# Altium schematic symbol library Embedded.SchLib: 40 symbols
Pins are listed as number, name and electrical type; pins without a type are passive.

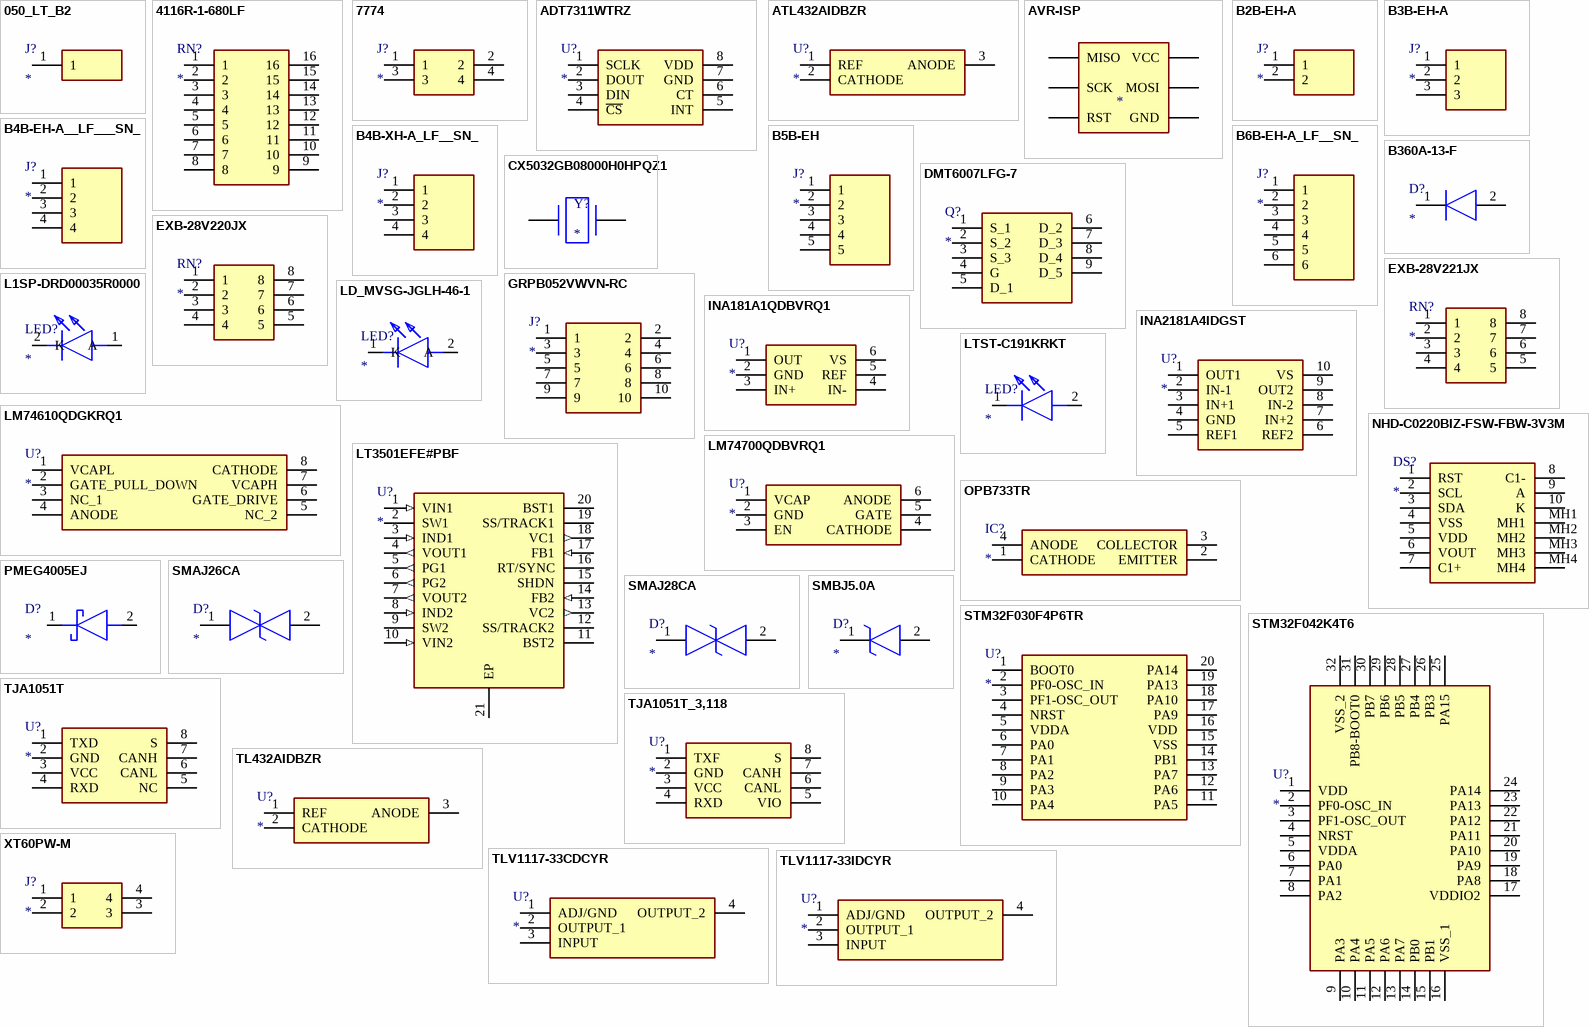
[diagram p0: symbols 050_LT_B2 to XT60PW-M]

## 050_LT_B2
designator J?
Connector; Manufacturer_Name: Oxley; Manufacturer_Part_Number: 050/LT/B2; Datasheet Link: http://www.farnell.com/datasheets/2644146.pdf?_ga=2.63921641.795442872.1562935128-2061028581.1560430415; Height: 4.5mm; Arrow Part Number: 050/LT/B2
footprint 050LTB2
pins: 1

## 4116R-1-680LF
designator RN?
Resistor Network; Manufacturer_Name: Bourns; Manufacturer_Part_Number: 4116R-1-680LF; Description: Bourns Isolated Resistor Network 68 +/-2% 8 Resistors; Datasheet Link: https://www.mouser.com/datasheet/2/54/4100R-776985.pdf; Height: 4.69mm; Mouser Part Number: 652-4116R-1LF-68; Mouser Price/Stock: https://www.mouser.com/Search/Refine.aspx?Keyword=652-4116R-1LF-68
footprint 4116R1680LF
pins: 1, 2, 3, 4, 5, 6, 7, 8, 9, 10, 11, 12, 13, 14, 15, 16

## 7774
designator J?
Connector; Manufacturer_Name: Keystone Electronics; Manufacturer_Part_Number: 7774; Datasheet Link: http://keyelco.com/userAssets/file/M65p66.pdf; Height: 4.6mm; Arrow Part Number: 7774; Mouser Part Number: 534-7774; Mouser Price/Stock: https://www.mouser.co.uk/ProductDetail/Keystone-Electronics/7774?qs=%252B%252BPv0l39JAFc7pxogUYqRg%3D%3D
footprint 7774
pins: 1, 2, 3, 4

## ADT7311WTRZ
designator U?
Integrated Circuit; Manufacturer_Name: Analog Devices; Manufacturer_Part_Number: ADT7311WTRZ; Datasheet Link: https://componentsearchengine.com/Datasheets/2/ADT7311WTRZ.pdf; Height: 1.75mm; Mouser Part Number: 584-ADT7311WTRZ; Mouser Price/Stock: https://www.mouser.com/Search/Refine.aspx?Keyword=584-ADT7311WTRZ
footprint SOIC127P600X175-8N
pins: 1 SCLK, 2 DOUT, 3 DIN, 4 ~{CS}, 5 INT, 6 CT, 7 GND, 8 VDD

## ATL432AIDBZR
designator U?
Integrated Circuit; Manufacturer_Name: Texas Instruments; Manufacturer_Part_Number: ATL432AIDBZR; Datasheet Link: https://www.ti.com/lit/gpn/ATL432; Height: 1.12mm; Arrow Part Number: ATL432AIDBZR; Mouser Part Number: 595-ATL432AIDBZR; Mouser Price/Stock: https://www.mouser.co.uk/ProductDetail/Texas-Instruments/ATL432AIDBZR?qs=yajEpaT76uTSfuUtbT09pw%3D%3D
footprint SOT95P237X112-3N
pins: 1 REF, 2 CATHODE, 3 ANODE

## AVR-ISP
designator ?  (mechanical)
Emulators / Simulators AVR USB IN CIRCUIT EMUL/PRGMR ISP; MP: AVR-ISP; MF: Gravitech; SnapEDA_Link: https://www.snapeda.com/parts/AVR-ISP/Gravitech/view-part/4593377/?ref=snap; Availability: Unavailable; Price: None; Value: *; Package: None
footprint AVR-ISP
pins: GND, MISO, MOSI, RST, SCK, VCC

## B2B-EH-A
designator J?
Connector; Manufacturer_Name: JST (JAPAN SOLDERLESS TERMINALS); Manufacturer_Part_Number: B2B-EH-A; Datasheet Link: http://www.jst-mfg.com/product/pdf/eng/eEH.pdf; Height: 6mm; Arrow Part Number: B2B-EH-A
footprint SHDR2W64P0X250_1X2_750X380X600P
pins: 1, 2

## B3B-EH-A
designator J?
Connector; Manufacturer_Name: JST (JAPAN SOLDERLESS TERMINALS); Manufacturer_Part_Number: B3B-EH-A; Datasheet Link: https://datasheet.datasheetarchive.com/originals/dk/DKDS-2/32954.pdf; Height: 6mm; Arrow Part Number: B3B-EH-A
footprint SHDR3W64P0X250_1X3_1000X380X600P
pins: 1, 2, 3

## B4B-EH-A__LF___SN_
designator J?
Connector; Manufacturer_Name: JST (JAPAN SOLDERLESS TERMINALS); Manufacturer_Part_Number: B4B-EH-A (LF) (SN); Datasheet Link: http://www.jst-mfg.com/product/pdf/eng/eEH.pdf; Height: 6mm; Arrow Part Number: B4B-EH-A (LF) (SN)
footprint SHDR4W64P0X250_1X4_1250X380X600P
pins: 1, 2, 3, 4

## B4B-XH-A_LF__SN_
designator J?
Connector; Manufacturer_Name: JST Sales America; Manufacturer_Part_Number: B4B-XH-A(LF)(SN); Datasheet Link: https://datasheet.lcsc.com/szlcsc/JST-Sales-America-B4B-XH-A-LF-SN_C144395.pdf; Height: 7mm; Arrow Part Number: B4B-XH-A(LF)(SN)
footprint B4BXHALFSN
pins: 1, 2, 3, 4

## B5B-EH
designator J?
Connector; Manufacturer_Name: JST (JAPAN SOLDERLESS TERMINALS); Manufacturer_Part_Number: B5B-EH; Datasheet Link: http://www.jst-mfg.com/product/pdf/eng/eEH.pdf; Height: 6mm
footprint SHDR5W64P0X250_1X5_1500X380X600P
pins: 1, 2, 3, 4, 5

## B6B-EH-A_LF__SN_
designator J?
Connector; Manufacturer_Name: JST (JAPAN SOLDERLESS TERMINALS); Manufacturer_Part_Number: B6B-EH-A(LF)(SN); Datasheet Link: http://www.jst-mfg.com/product/pdf/eng/eEH.pdf; Height: 6mm; Arrow Part Number: B6B-EH-A(LF)(SN); Arrow Price/Stock: https://www.arrow.com/en/products/b6b-eh-a-lf-sn/jst-manufacturing
footprint B6BEHALFSN
pins: 1, 2, 3, 4, 5, 6

## B360A-13-F
designator D?
Diode; Manufacturer_Name: Diodes Inc.; Manufacturer_Part_Number: B360A-13-F; Datasheet Link: https://www.diodes.com/assets/Datasheets/ds30891.pdf; Height: 2.4mm; Arrow Part Number: B360A-13-F; Arrow Price/Stock: https://www.arrow.com/en/products/b360a-13-f/diodes-incorporated; Mouser Part Number: 621-B360A-F; Mouser Price/Stock: https://www.mouser.co.uk/ProductDetail/Diodes-Incorporated/B360A-13-F?qs=sVoUGXYOGv3xoCWNHVb4bA%3D%3D
footprint DIOM5226X240N
pins: 1 K, 2 A

## CX5032GB08000H0HPQZ1
designator Y?
Crystal or Oscillator; Manufacturer_Name: Kyocera Electronic Components; Manufacturer_Part_Number: CX5032GB08000H0HPQZ1; Datasheet Link: https://media.digikey.com/pdf/Data%20Sheets/AVX%20PDFs/CX5032GB0yyyyyH0HPQZ1_Series_Spec.pdf; Height: 1.1mm; Arrow Part Number: CX5032GB08000H0HPQZ1; Mouser Part Number: 581-CX532GB8HHPQZ1; Mouser Price/Stock: https://www.mouser.co.uk/ProductDetail/Kyocera-Electronic-Components/CX5032GB08000H0HPQZ1?qs=mFMVSnANsC2SO%252B6cjFFj8w%3D%3D
footprint CX5032GB08000H0HPQZ1
pins: 1, 2

## DMT6007LFG-7
designator Q?
MOSFET (N-Channel); Manufacturer_Name: Diodes Inc.; Manufacturer_Part_Number: DMT6007LFG-7; Datasheet Link: https://componentsearchengine.com/Datasheets/1/DMT6007LFG-7.pdf; Height: 0.85mm; Arrow Part Number: DMT6007LFG-7; Arrow Price/Stock: https://www.arrow.com/en/products/dmt6007lfg-7/diodes-incorporated; Mouser Part Number: 621-DMT6007LFG-7; Mouser Price/Stock: https://www.mouser.com/Search/Refine.aspx?Keyword=621-DMT6007LFG-7
footprint DMT6007LFG7
pins: 1 S_1, 2 S_2, 3 S_3, 4 G, 5 D_1, 6 D_2, 7 D_3, 8 D_4, 9 D_5

## EXB-28V220JX
designator RN?
Resistor Network; Manufacturer_Name: Panasonic; Manufacturer_Part_Number: EXB-28V220JX; Datasheet Link: https://industrial.panasonic.com/cdbs/www-data/pdf/AOC0000/AOC0000C14.pdf; Height: 0mm; Arrow Part Number: EXB-28V220JX; Arrow Price/Stock: https://www.arrow.com/en/products/exb28v220jx/panasonic; Mouser Part Number: 667-EXB-28V220JX; Mouser Price/Stock: https://www.mouser.co.uk/ProductDetail/Panasonic/EXB-28V220JX?qs=oE3VwAv%2FYtloe62uHqirww%3D%3D
footprint EXB28V510JX
pins: 1, 2, 3, 4, 5, 6, 7, 8

## EXB-28V221JX
designator RN?
Resistor Network; Manufacturer_Name: Panasonic; Manufacturer_Part_Number: EXB-28V221JX; Datasheet Link: https://industrial.panasonic.com/cdbs/www-data/pdf/AOC0000/AOC0000C14.pdf; Height: 0mm; Arrow Part Number: EXB-28V221JX; Arrow Price/Stock: https://www.arrow.com/en/products/exb-28v221jx/panasonic; Mouser Part Number: 667-EXB-28V221JX; Mouser Price/Stock: https://www.mouser.co.uk/ProductDetail/Panasonic/EXB-28V221JX?qs=oE3VwAv%2FYtmqBdW5%252BRW5gA%3D%3D
footprint EXB28V510JX
pins: 1, 2, 3, 4, 5, 6, 7, 8

## GRPB052VWVN-RC
designator J?
Connector; Manufacturer_Name: Sullins; Manufacturer_Part_Number: GRPB052VWVN-RC; Datasheet Link: https://media.digikey.com/pdf/Data%20Sheets/Sullins%20PDFs/GRPB_%20_2VWVN-RC%2010954-C.pdf; Height: 4.3mm; Arrow Part Number: GRPB052VWVN-RC
footprint HDRV10W50P127_2X5_635X340X430P
pins: 1, 2, 3, 4, 5, 6, 7, 8, 9, 10

## INA181A1QDBVRQ1
designator U?
Integrated Circuit; Manufacturer_Name: Texas Instruments; Manufacturer_Part_Number: INA181A1QDBVRQ1; Datasheet Link: http://www.ti.com/lit/gpn/INA181-Q1; Height: 1.45mm; Arrow Part Number: INA181A1QDBVRQ1; Arrow Price/Stock: https://www.arrow.com/en/products/ina181a1qdbvrq1/texas-instruments; Mouser Part Number: 595-INA181A1QDBVRQ1; Mouser Price/Stock: https://www.mouser.co.uk/ProductDetail/Texas-Instruments/INA181A1QDBVRQ1?qs=EBDBlbfErPx7yYU5sEtaJQ%3D%3D
footprint SOT95P280X145-6N
pins: 1 OUT, 2 GND, 3 IN+, 4 IN-, 5 REF, 6 VS

## INA2181A4IDGST
designator U?
Integrated Circuit; Manufacturer_Name: Texas Instruments; Manufacturer_Part_Number: INA2181A4IDGST; Datasheet Link: http://www.ti.com/lit/ds/symlink/ina2181.pdf; Height: 1.1mm; Arrow Part Number: INA2181A4IDGST; Arrow Price/Stock: https://www.arrow.com/en/products/ina2181a4idgst/texas-instruments; Mouser Part Number: 595-INA2181A4IDGST; Mouser Price/Stock: https://www.mouser.co.uk/ProductDetail/Texas-Instruments/INA2181A4IDGST?qs=j%252B1pi9TdxUbPFaAVw1%2FxVg%3D%3D
footprint SOP50P490X110-10N
pins: 1 OUT1, 2 IN-1, 3 IN+1, 4 GND, 5 REF1, 6 REF2, 7 IN+2, 8 IN-2, 9 OUT2, 10 VS

## L1SP-DRD00035R0000
designator LED?
LED; Manufacturer_Name: Lumileds; Manufacturer_Part_Number: L1SP-DRD00035R0000; Datasheet Link: https://www.lumileds.com/uploads/637/DS171-luxeon-sunplus-series-datasheet-pdf; Height: 0.8mm; Arrow Part Number: L1SP-DRD00035R0000; Arrow Price/Stock: https://www.arrow.com/en/products/l1sp-drd00035r0000/lumileds; Mouser Part Number: 997-L1SPDRD0035R0000; Mouser Price/Stock: https://www.mouser.com/Search/Refine.aspx?Keyword=997-L1SPDRD0035R0000
footprint L1SPDRD00035R0000
pins: 1 A, 2 K

## LD_MVSG-JGLH-46-1
designator LED?
LED; Manufacturer_Name: OSRAM; Manufacturer_Part_Number: LD MVSG-JGLH-46-1; Datasheet Link: https://dammedia.osram.info/media/resource/hires/osram-dam-6917470/LD%20MVSG_EN.pdf; Height: 1.4mm; Arrow Part Number: LD MVSG-JGLH-46-1; Arrow Price/Stock: https://www.arrow.com/en/products/ldmvsg-jglh-46-1/osram-opto-semiconductors; Mouser Part Number: 720-LDMVSGJGLH461; Mouser Price/Stock: https://www.mouser.co.uk/ProductDetail/OSRAM-Opto-Semiconductors/LD-MVSG-JGLH-46-1?qs=znB0%2F8lYn%252BuYpqaPHtqGHw%3D%3D
footprint LEDM2218X140N
pins: 1 K, 2 A

## LM74610QDGKRQ1
designator U?
Integrated Circuit; Manufacturer_Name: Texas Instruments; Manufacturer_Part_Number: LM74610QDGKRQ1; Datasheet Link: http://www.ti.com/lit/gpn/lm74610-q1; Height: 1.1mm; Arrow Part Number: LM74610QDGKRQ1; Arrow Price/Stock: https://www.arrow.com/en/products/lm74610qdgkrq1/texas-instruments; Mouser Part Number: 595-LM74610QDGKRQ1; Mouser Price/Stock: https://www.mouser.co.uk/ProductDetail/Texas-Instruments/LM74610QDGKRQ1?qs=3jdCaFhktOQTVpuuubgDqg%3D%3D
footprint SOP65P490X110-8N
pins: 1 VCAPL, 2 GATE_PULL_DOWN, 3 NC_1, 4 ANODE, 5 NC_2, 6 GATE_DRIVE, 7 VCAPH, 8 CATHODE

## LM74700QDBVRQ1
designator U?
Integrated Circuit; Manufacturer_Name: Texas Instruments; Manufacturer_Part_Number: LM74700QDBVRQ1; Datasheet Link: http://www.ti.com/lit/gpn/LM74700-Q1; Height: 1.45mm; Arrow Part Number: LM74700QDBVRQ1; Arrow Price/Stock: https://www.arrow.com/en/products/lm74700qdbvrq1/texas-instruments; Mouser Part Number: 595-LM74700QDBVRQ1; Mouser Price/Stock: https://www.mouser.co.uk/ProductDetail/Texas-Instruments/LM74700QDBVRQ1?qs=j%252B1pi9TdxUYjAZhGV8eSkQ%3D%3D
footprint SOT95P280X145-6N
pins: 1 VCAP, 2 GND, 3 EN, 4 CATHODE, 5 GATE, 6 ANODE

## LT3501EFE#PBF
designator U?
Integrated Circuit; Manufacturer_Name: Linear Technology; Manufacturer_Part_Number: LT3501EFE#PBF; Datasheet Link: http://cds.linear.com/docs/en/datasheet/3501fd.pdf; Height: 1.2mm; Arrow Part Number: LT3501EFE#PBF; Mouser Part Number: 584-LT3501EFE#PBF; Mouser Price/Stock: https://www.mouser.com/Search/Refine.aspx?Keyword=584-LT3501EFE%23PBF
footprint SOP65P640X120-21N
pins: 1 VIN1 (in), 2 SW1, 3 IND1 (in), 4 VOUT1 (out), 5 PG1 (out), 6 PG2 (out), 7 VOUT2 (out), 8 IND2 (in), 9 SW2, 10 VIN2 (in), 11 BST2, 12 SS/TRACK2, 13 VC2 (out), 14 FB2 (in), 15 SHDN, 16 RT/SYNC, 17 FB1 (in), 18 VC1 (out), 19 SS/TRACK1, 20 BST1, 21 EP (power)

## LTST-C191KRKT
designator LED?
LED; Manufacturer_Name: Lite-On; Manufacturer_Part_Number: LTST-C191KRKT; Description: Standard LEDs - SMD Red Clear 631nm; Datasheet Link: http://www.mouser.com/ds/2/239/S_110_LTST-C191KRKT-539838.pdf; Height: 0.55mm; Arrow Part Number: LTST-C191KRKT; Arrow Price/Stock: https://www.arrow.com/en/products/ltst-c191krkt/lite-on-technology; Mouser Part Number: 859-LTST-C191KRKT; Mouser Price/Stock: https://www.mouser.co.uk/ProductDetail/Lite-On/LTST-C191KRKT?qs=BAIUz4Y8PJBLfOhzue0q%252BA%3D%3D
footprint LEDC1608X55N
pins: 1 K, 2 A

## NHD-C0220BIZ-FSW-FBW-3V3M
designator DS?
Display; Manufacturer_Name: Newhaven Display; Manufacturer_Part_Number: NHD-C0220BIZ-FSW-FBW-3V3M; Datasheet Link: https://componentsearchengine.com/Datasheets/1/NHD-C0220BiZ-FSW-FBW-3V3M.pdf; Height: 7mm; Arrow Part Number: NHD-C0220BIZ-FSW-FBW-3V3M; Mouser Part Number: 763-C0220BIZ-FSW-FBW; Mouser Price/Stock: https://www.mouser.com/Search/Refine.aspx?Keyword=763-C0220BIZ-FSW-FBW
footprint NHDC0220BIZFSWFBW3V3M
pins: 1 RST, 2 SCL, 3 SDA, 4 VSS, 5 VDD, 6 VOUT, 7 C1+, 8 C1-, 9 A, 10 K, MH1, MH2, MH3, MH4

## OPB733TR
designator IC?
Integrated Circuit; Manufacturer_Name: OPTEK TECHNOLOGY; Manufacturer_Part_Number: OPB733TR; Datasheet Link: https://www.ttelectronics.com/TTElectronics/media/ProductFiles/Optoelectronics/Datasheets/OPB733.pdf; Height: 2.89mm; Arrow Part Number: OPB733TR; Arrow Price/Stock: https://www.arrow.com/en/products/opb733tr/optek-technology; Mouser Part Number: 828-OPB733TR; Mouser Price/Stock: https://www.mouser.co.uk/ProductDetail/Optek-TT-Electronics/OPB733TR?qs=Hy8V1%2FADhVLIiFPCqvrxlg%3D%3D
footprint OPB733TR
pins: 1 CATHODE, 2 EMITTER, 3 COLLECTOR, 4 ANODE

## PMEG4005EJ
designator D?
Schottky Diode; Manufacturer_Name: Nexperia; Manufacturer_Part_Number: PMEG4005EJ; Datasheet Link: http://www.nxp.com/documents/data_sheet/PMEGXX05EH_EJ_SER.pdf; Height: 0.8mm; Arrow Part Number: PMEG4005EJ; Mouser Part Number: N/A; Mouser Price/Stock: https://www.mouser.com/Search/Refine.aspx?Keyword=N%2FA
footprint SOD2512X80N
pins: 1 K, 2 A

## SMAJ26CA
designator D?
TVS Diode (Bi-directional); Manufacturer_Name: LITTELFUSE; Manufacturer_Part_Number: SMAJ26CA; Datasheet Link: https://www.littelfuse.com/~/media/electronics/datasheets/tvs_diodes/littelfuse_tvs_diode_smaj_datasheet.pdf.pdf; Height: 2.29mm; Arrow Part Number: SMAJ26CA; Arrow Price/Stock: https://www.arrow.com/en/products/smaj26ca/littelfuse; Mouser Part Number: 576-SMAJ26CA; Mouser Price/Stock: https://www.mouser.co.uk/ProductDetail/Littelfuse/SMAJ26CA?qs=JJML70Qc14sEeKNnyCkoLQ%3D%3D
footprint DIONM5026X229N
pins: 1, 2

## SMAJ28CA
designator D?
TVS Diode (Bi-directional); Manufacturer_Name: Bourns; Manufacturer_Part_Number: SMAJ28CA; Datasheet Link: https://www.bourns.com/data/global/pdfs/SMAJ.pdf; Height: 2.62mm; Arrow Part Number: SMAJ28CA; Arrow Price/Stock: https://www.arrow.com/en/products/smaj28ca/bourns; Mouser Part Number: 652-SMAJ28CA; Mouser Price/Stock: https://www.mouser.co.uk/ProductDetail/Bourns/SMAJ28CA?qs=A3H9pljuJ8Rc2FOBsYvsOw%3D%3D
footprint DIONM5226X262N
pins: 1, 2

## SMBJ5.0A
designator D?
TVS Diode (Uni-directional); Manufacturer_Name: Vishay; Manufacturer_Part_Number: SMBJ5.0A; Datasheet Link: http://www.vishay.com/docs/88392/smbj.pdf; Height: 2.44mm; Arrow Part Number: SMBJ5.0A
footprint DIOM5436X244N
pins: 1 K, 2 A

## STM32F030F4P6TR
designator U?
Integrated Circuit; Manufacturer_Name: STMicroelectronics; Manufacturer_Part_Number: STM32F030F4P6TR; Datasheet Link: https://www.st.com/resource/en/datasheet/stm32f030rc.pdf; Height: 1.2mm; Arrow Part Number: STM32F030F4P6TR; Arrow Price/Stock: https://www.arrow.com/en/products/stm32f030f4p6tr/stmicroelectronics; Mouser Part Number: 511-STM32F030F4P6TR; Mouser Price/Stock: https://www.mouser.co.uk/ProductDetail/STMicroelectronics/STM32F030F4P6TR?qs=MavH1QghrkE4yfyLOfvVsw%3D%3D
footprint SOP65P640X120-20N
pins: 1 BOOT0, 2 PF0-OSC_IN, 3 PF1-OSC_OUT, 4 NRST, 5 VDDA, 6 PA0, 7 PA1, 8 PA2, 9 PA3, 10 PA4, 11 PA5, 12 PA6, 13 PA7, 14 PB1, 15 VSS, 16 VDD, 17 PA9, 18 PA10, 19 PA13, 20 PA14

## STM32F042K4T6
designator U?
Integrated Circuit; Manufacturer_Name: STMicroelectronics; Manufacturer_Part_Number: STM32F042K4T6; Datasheet Link: https://www.mouser.com/datasheet/2/389/stm32f042c4-956225.pdf; Height: 1.6mm; Arrow Part Number: STM32F042K4T6; Arrow Price/Stock: https://www.arrow.com/en/products/stm32f042k4t6/stmicroelectronics; Mouser Part Number: 511-STM32F042K4T6; Mouser Price/Stock: https://www.mouser.co.uk/ProductDetail/STMicroelectronics/STM32F042K4T6?qs=ClYTdQWm4hDAfZj5dd9NhA%3D%3D
footprint QFP80P900X900X160-32N
pins: 1 VDD, 2 PF0-OSC_IN, 3 PF1-OSC_OUT, 4 NRST, 5 VDDA, 6 PA0, 7 PA1, 8 PA2, 9 PA3, 10 PA4, 11 PA5, 12 PA6, 13 PA7, 14 PB0, 15 PB1, 16 VSS_1, 17 VDDIO2, 18 PA8, 19 PA9, 20 PA10, 21 PA11, 22 PA12, 23 PA13, 24 PA14, 25 PA15, 26 PB3, 27 PB4, 28 PB5, 29 PB6, 30 PB7, 31 PB8-BOOT0, 32 VSS_2

## TJA1051T
designator U?
Integrated Circuit; Manufacturer_Name: Nexperia; Manufacturer_Part_Number: TJA1051T; Datasheet Link: http://uk.rs-online.com/web/p/products/1242432; Height: 1.75mm; Arrow Part Number: TJA1051T; Mouser Part Number: N/A; Mouser Price/Stock: https://www.mouser.com/Search/Refine.aspx?Keyword=N%2FA
footprint SOIC127P600X175-8N
pins: 1 TXD, 2 GND, 3 VCC, 4 RXD, 5 NC, 6 CANL, 7 CANH, 8 S

## TJA1051T_3,118
designator U?
Integrated Circuit; Manufacturer_Name: NXP; Manufacturer_Part_Number: TJA1051T/3,118; Datasheet Link: http://www.nxp.com/docs/en/data-sheet/TJA1051.pdf; Height: 1.75mm; Arrow Part Number: TJA1051T/3,118; Arrow Price/Stock: https://www.arrow.com/en/products/tja1051t3118/nxp-semiconductors; Mouser Part Number: 771-TJA1051T3118; Mouser Price/Stock: https://www.mouser.co.uk/ProductDetail/NXP-Semiconductors/TJA1051T-3118?qs=O%2F7ihdSJpebv1PFlp05wnQ%3D%3D
footprint SOIC127P600X175-8N
pins: 1 TXF, 2 GND, 3 VCC, 4 RXD, 5 VIO, 6 CANL, 7 CANH, 8 S

## TL432AIDBZR
designator U?
Integrated Circuit; Manufacturer_Name: Texas Instruments; Manufacturer_Part_Number: TL432AIDBZR; Datasheet Link: http://www.ti.com/lit/gpn/tl432a; Height: 1.12mm; Arrow Part Number: TL432AIDBZR; Arrow Price/Stock: https://www.arrow.com/en/products/tl432aidbzr/texas-instruments; Mouser Part Number: 595-TL432AIDBZR; Mouser Price/Stock: https://www.mouser.co.uk/ProductDetail/Texas-Instruments/TL432AIDBZR?qs=odmYgEirbwzw%252BopYvrzCyA%3D%3D
footprint SOT95P237X112-3N
pins: 1 REF, 2 CATHODE, 3 ANODE

## TLV1117-33CDCYR
designator U?
Integrated Circuit; Manufacturer_Name: Texas Instruments; Manufacturer_Part_Number: TLV1117-33CDCYR; Datasheet Link: http://www.ti.com/lit/gpn/tlv1117; Height: 1.8mm; Arrow Part Number: TLV1117-33CDCYR; Arrow Price/Stock: https://www.arrow.com/en/products/tlv1117-33cdcyr/texas-instruments; Mouser Part Number: 595-TLV1117-33CDCYR; Mouser Price/Stock: https://www.mouser.co.uk/ProductDetail/Texas-Instruments/TLV1117-33CDCYR?qs=p6lVfQR1GSoiRKz8KGIbKg%3D%3D
footprint SOT230P700X180-4N
pins: 1 ADJ/GND, 2 OUTPUT_1, 3 INPUT, 4 OUTPUT_2

## TLV1117-33IDCYR
designator U?
Integrated Circuit; Manufacturer_Name: Texas Instruments; Manufacturer_Part_Number: TLV1117-33IDCYR; Datasheet Link: http://www.ti.com/lit/ds/symlink/tlv1117-33.pdf; Height: 1.8mm; Arrow Part Number: TLV1117-33IDCYR; Arrow Price/Stock: https://www.arrow.com/en/products/tlv1117-33idcyr/texas-instruments; Mouser Part Number: 595-TLV1117-33IDCYR; Mouser Price/Stock: https://www.mouser.co.uk/ProductDetail/Texas-Instruments/TLV1117-33IDCYR?qs=p6lVfQR1GSoKgp3tAXcW5w%3D%3D
footprint SOT230P700X180-4N
pins: 1 ADJ/GND, 2 OUTPUT_1, 3 INPUT, 4 OUTPUT_2

## XT60PW-M
designator J?
Connector; Manufacturer_Name: Changzou Amass Elec; Manufacturer_Part_Number: XT60PW-M; Datasheet Link: https://www.tme.eu/Document/9b8d0c5eb7094295f3d3112c214d3ade/XT60PW%20SPEC.pdf; Height: 8.4mm; Arrow Part Number: XT60PW-M
footprint XT60PWM
pins: 1, 2, 3, 4